# Altium schematic symbol library SY10EP11U.SchLib: 1 symbol
Pins are listed as number, name and electrical type; pins without a type are passive.

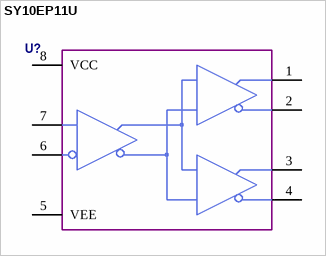
[diagram p0: symbol SY10EP11U]

## SY10EP11U
designator U?  (value not drawn)
pins: 1 Q0, 2 /Q0, 3 Q1, 4 ~{Q1}, 5 VEE, 6 ~{D}, 7 D, 8 VCC